# EAGLE library part LMR16006Y (library texas)
BUCK REGULATOR 3.3V 0.6A SOT-6L
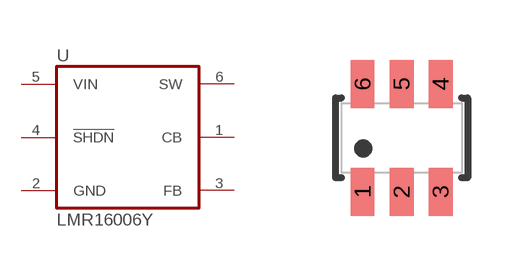
[diagram p115: symbol with the pads of SOT6L; footprint SOT6L]

Designator prefix U

## LMR16006Y  [SOT6L]
1  CB  in
2  GND  pwr
3  FB  in
4  !SHDN!  in
5  VIN  in
6  SW  out

## Footprint SOT6L (pad centres in mm)
SOT-6L - DDC 0.95 mm pitch
smd 0.6 x 1.2: 1 -0.975,-1.35; 2 0,-1.35; 3 0.975,-1.35; 4 0.975,1.35; 5 0,1.35; 6 -0.975,1.35